# Altium footprint library 4.01-2.00mm排针-排母.PcbLib: 14 footprints
Each footprint in its own frame and in the unit in brackets; x right, y up, seen from the top. Pads: shape width x height; smd on the part's side, far side on the other; paste and mask are expansions set on the pad; w line width, h text height; cw(c..) or ccw(c..) is an arc to the next point about the centre after c.
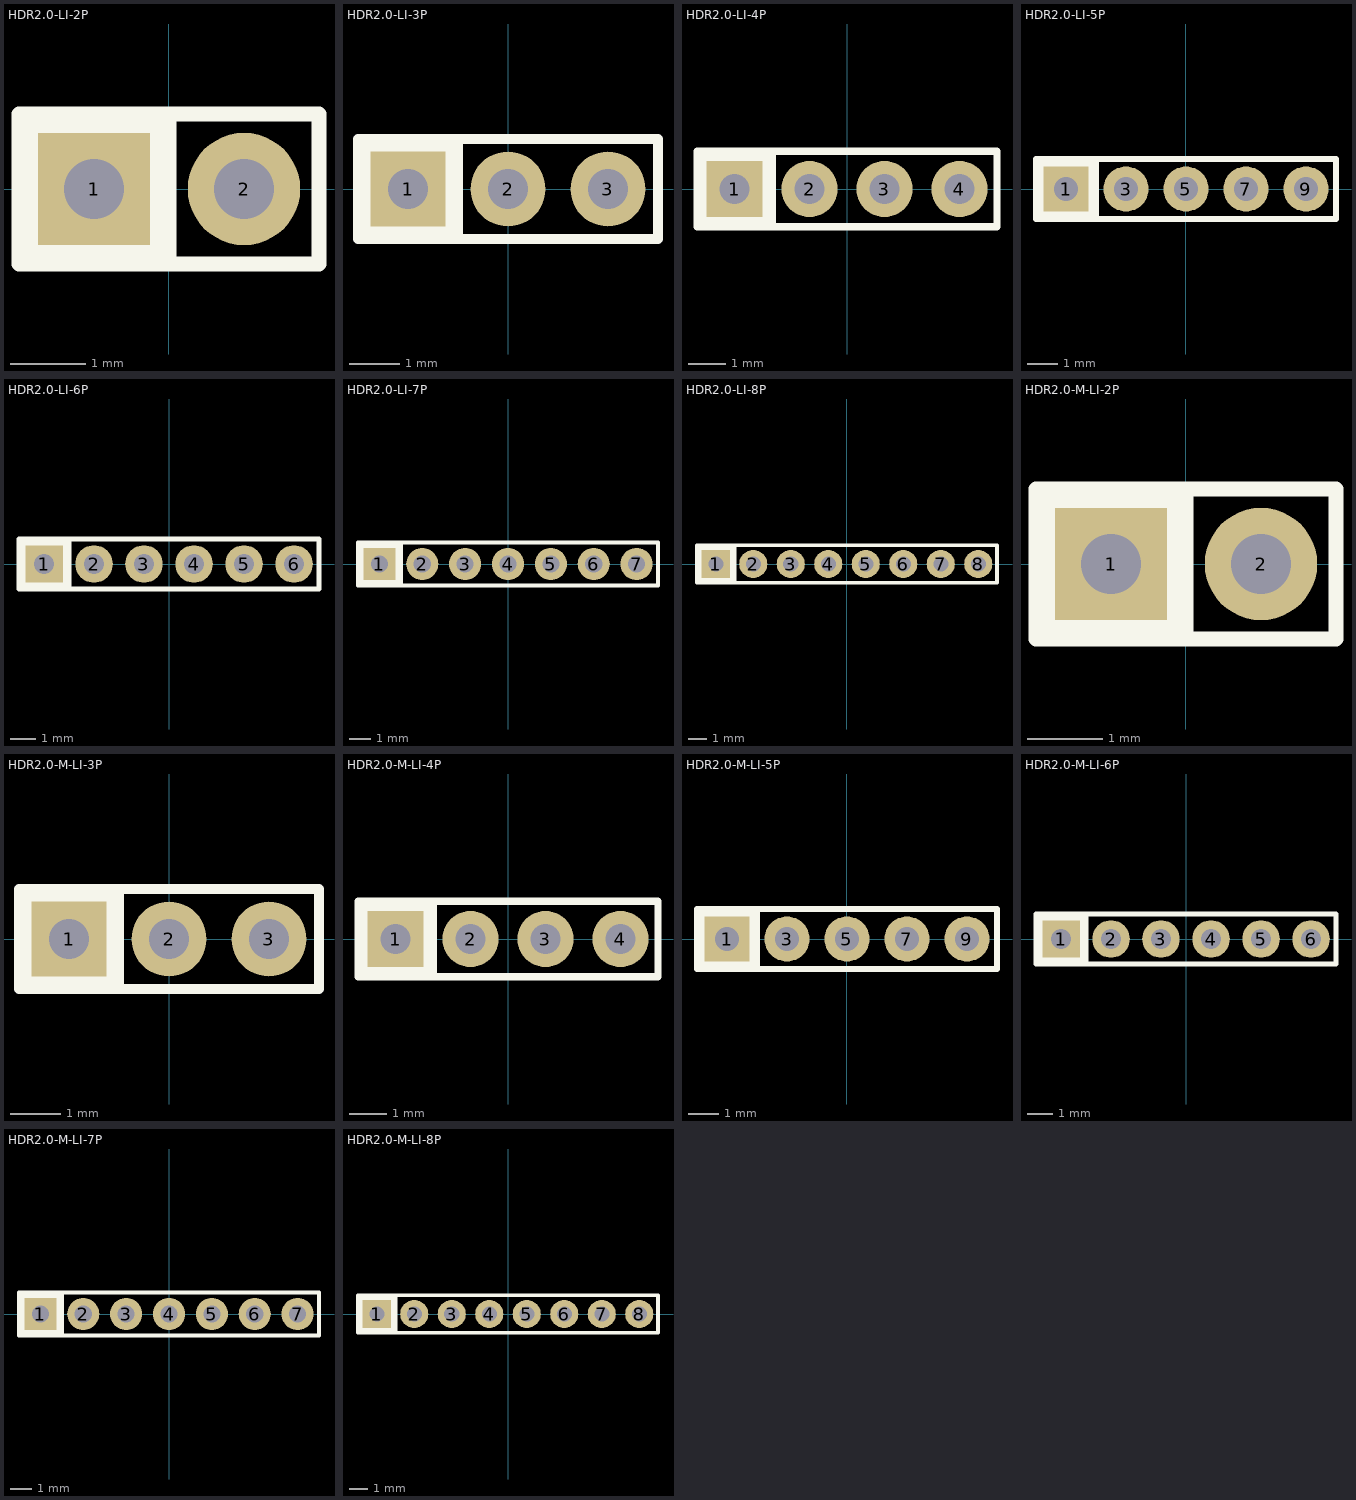
[diagram p0: the footprints below, top view; thin cyan lines are the x and y axes]

## HDR2.0-LI-2P [mm] "直插，脚距：2.0mm  封装库来自淘宝卖家 ID：黄晶宝石"
pads (2):
  rect 1.5x1.5 hole 0.8: 1(-1,0)
  round 1.5 hole 0.8: 2(1,0)
Top Overlay:
  rectangle: -2,-1 0,1
  lines w0.2: 0,-1 0,1 ; -2,-1 -2,1 2,1 2,-1 -2,-1
3D body "HDR2.0-LI-2P.STEP": height 6.5, standoff -2.8, extent -2,-1 2,1

## HDR2.0-LI-3P [mm] "直插，脚距：2.0mm 封装库来自淘宝卖家 ID：黄晶宝石"
pads (3):
  rect 1.5x1.5 hole 0.8: 1(-2,0)
  round 1.5 hole 0.8: 2(0,0) 3(2,0)
Top Overlay:
  rectangle: -3,-1 -1,1
  lines w0.2: -1,-1 -1,1 ; -3,-1 -3,1 3,1 3,-1 -3,-1
3D body "HDR2.0-LI-3P.STEP": height 6.5, standoff -2.8, extent -3,-1 3,1

## HDR2.0-LI-4P [mm] "直插，脚距：2.0mm 封装库来自淘宝卖家 ID：黄晶宝石"
pads (4):
  rect 1.5x1.5 hole 0.8: 1(-3,0)
  round 1.5 hole 0.8: 2(-1,0) 3(1,0) 4(3,0)
Top Overlay:
  rectangle: -4,-1 -2,1
  lines w0.2: -2,-1 -2,1 ; -4,-1 -4,1 4,1 4,-1 -4,-1
3D body "HDR2.0-LI-4P.STEP": height 6.5, standoff -2.8, extent -4,-1 4,1

## HDR2.0-LI-5P [mm] "直插，脚距：2.0mm"
pads (5):
  rect 1.5x1.5 hole 0.8: 1(-4,0)
  round 1.5 hole 0.8: 3(-2,0) 5(0,0) 7(2,0) 9(4,0)
Top Overlay:
  rectangle: -5,-1 -3,1
  lines w0.2: -3,-1 -3,1 ; -5,-1 5,-1 ; -5,-1 -5,1 5,1 5,-1 ; -5,-1 5,-1
3D body "HDR2.0-LI-5P.STEP": height 6.5, standoff -2.8, extent -5,-1 5,1

## HDR2.0-LI-6P [mm] "直插，脚距：2.0mm 封装库来自淘宝卖家 ID：黄晶宝石"
pads (6):
  rect 1.5x1.5 hole 0.8: 1(-5,0)
  round 1.5 hole 0.8: 2(-3,0) 3(-1,0) 4(1,0) 5(3,0) 6(5,0)
Top Overlay:
  rectangle: -6,-1 -4,1
  lines w0.2: -4,-1 -4,1 ; -6,-1 -6,1 6,1 6,-1 -6,-1
3D body "HDR2.0-LI-6P.STEP": height 6.5, standoff -2.8, extent -6,-1 6,1

## HDR2.0-LI-7P [mm] "直插，脚距：2.0mm 封装库来自淘宝卖家 ID：黄晶宝石"
pads (7):
  rect 1.5x1.5 hole 0.8: 1(-6,0)
  round 1.5 hole 0.8: 2(-4,0) 3(-2,0) 4(0,0) 5(2,0) 6(4,0) 7(6,0)
Top Overlay:
  rectangle: -7,-1 -5,1
  lines w0.2: -5,-1 -5,1 ; -7,-1 -7,1 7,1 7,-1 -7,-1
3D body "HDR2.0-LI-7P.STEP": height 6.5, standoff -2.8, extent -7,-1 7,1

## HDR2.0-LI-8P [mm] "直插，脚距：2.0mm 封装库来自淘宝卖家 ID：黄晶宝石"
pads (8):
  rect 1.5x1.5 hole 0.8: 1(-7,0)
  round 1.5 hole 0.8: 2(-5,0) 3(-3,0) 4(-1,0) 5(1,0) 6(3,0) 7(5,0) 8(7,0)
Top Overlay:
  rectangle: -8,-1 -6,1
  lines w0.2: -6,-1 -6,1 ; -8,-1 -8,1 8,1 8,-1 -8,-1
3D body "HDR2.0-LI-8P.STEP": height 6.5, standoff -2.8, extent -8,-1 8,1

## HDR2.0-M-LI-2P [mm] "直插排母，脚距：2.0mm  封装库来自淘宝卖家 ID：黄晶宝石"
pads (2):
  rect 1.5x1.5 hole 0.8: 1(-1,0)
  round 1.5 hole 0.8: 2(1,0)
Top Overlay:
  rectangle: -2,-1 0,1
  lines w0.2: 0,-1 0,1 ; -2,-1 -2,1 2,1 2,-1 -2,-1
3D body "HDR2.0-M-LI-2P.STEP": height 5.5, standoff -2.27, extent -2,-1 2,1

## HDR2.0-M-LI-3P [mm] "直插排母，脚距：2.0mm 封装库来自淘宝卖家 ID：黄晶宝石"
pads (3):
  rect 1.5x1.5 hole 0.8: 1(-2,0)
  round 1.5 hole 0.8: 2(0,0) 3(2,0)
Top Overlay:
  rectangle: -3,-1 -1,1
  lines w0.2: -1,-1 -1,1 ; -3,-1 -3,1 3,1 3,-1 -3,-1
3D body "HDR2.0-M-LI-3P.STEP": height 5.5, standoff -2.27, extent -3,-1 3,1

## HDR2.0-M-LI-4P [mm] "直插排母，脚距：2.0mm  封装库来自淘宝卖家 ID：黄晶宝石"
pads (4):
  rect 1.5x1.5 hole 0.8: 1(-3,0)
  round 1.5 hole 0.8: 2(-1,0) 3(1,0) 4(3,0)
Top Overlay:
  rectangle: -4,-1 -2,1
  lines w0.2: -2,-1 -2,1 ; -4,-1 4,-1 4,1 -4,1 -4,-1
3D body "HDR2.0-M-LI-4P.STEP": height 5.5, standoff -2.27, extent -4,-1 4,1

## HDR2.0-M-LI-5P [mm] "直插排母，脚距：2.0mm  封装库来自淘宝卖家 ID：黄晶宝石"
pads (5):
  rect 1.5x1.5 hole 0.8: 1(-4,0)
  round 1.5 hole 0.8: 3(-2,0) 5(0,0) 7(2,0) 9(4,0)
Top Overlay:
  rectangle: -5,-1 -3,1
  lines w0.2: -3,-1 -3,1 ; -5,-1 5,-1 ; -5,-1 -5,1 5,1 5,-1 ; -5,-1 5,-1
3D body "HDR2.0-M-LI-5P.STEP": height 5.5, standoff -2.27, extent -5,-1 5,1

## HDR2.0-M-LI-6P [mm] "直插排母，脚距：2.0mm  封装库来自淘宝卖家 ID：黄晶宝石"
pads (6):
  rect 1.5x1.5 hole 0.8: 1(-5,0)
  round 1.5 hole 0.8: 2(-3,0) 3(-1,0) 4(1,0) 5(3,0) 6(5,0)
Top Overlay:
  rectangle: -6,-1 -4,1
  lines w0.2: -4,-1 -4,1 ; -6,-1 6,-1 6,1 -6,1 -6,-1
3D body "HDR2.0-M-LI-6P.STEP": height 5.5, standoff -2.27, extent -6,-1 6,1

## HDR2.0-M-LI-7P [mm] "直插排母，脚距：2.0mm  封装库来自淘宝卖家 ID：黄晶宝石"
pads (7):
  rect 1.5x1.5 hole 0.8: 1(-6,0)
  round 1.5 hole 0.8: 2(-4,0) 3(-2,0) 4(0,0) 5(2,0) 6(4,0) 7(6,0)
Top Overlay:
  rectangle: -7,-1 -5,1
  lines w0.2: -5,-1 -5,1 ; -7,-1 -7,1 7,1 7,-1 -7,-1
3D body "HDR2.0-M-LI-7P.STEP": height 5.5, standoff -2.27, extent -7,-1 7,1

## HDR2.0-M-LI-8P [mm] "直插排母，脚距：2.0mm  封装库来自淘宝卖家 ID：黄晶宝石"
pads (8):
  rect 1.5x1.5 hole 0.8: 1(-7,0)
  round 1.5 hole 0.8: 2(-5,0) 3(-3,0) 4(-1,0) 5(1,0) 6(3,0) 7(5,0) 8(7,0)
Top Overlay:
  rectangle: -8,-1 -6,1
  lines w0.2: -6,-1 -6,1 ; -8,-1 -8,1 8,1 8,-1 -8,-1
3D body "HDR2.0-M-LI-8P.STEP": height 5.5, standoff -2.27, extent -8,-1 8,1